# Altium schematic symbol library IC.SchLib: 77 symbols (part 1 of 3)
Pins are listed as number, name and electrical type; pins without a type are passive.

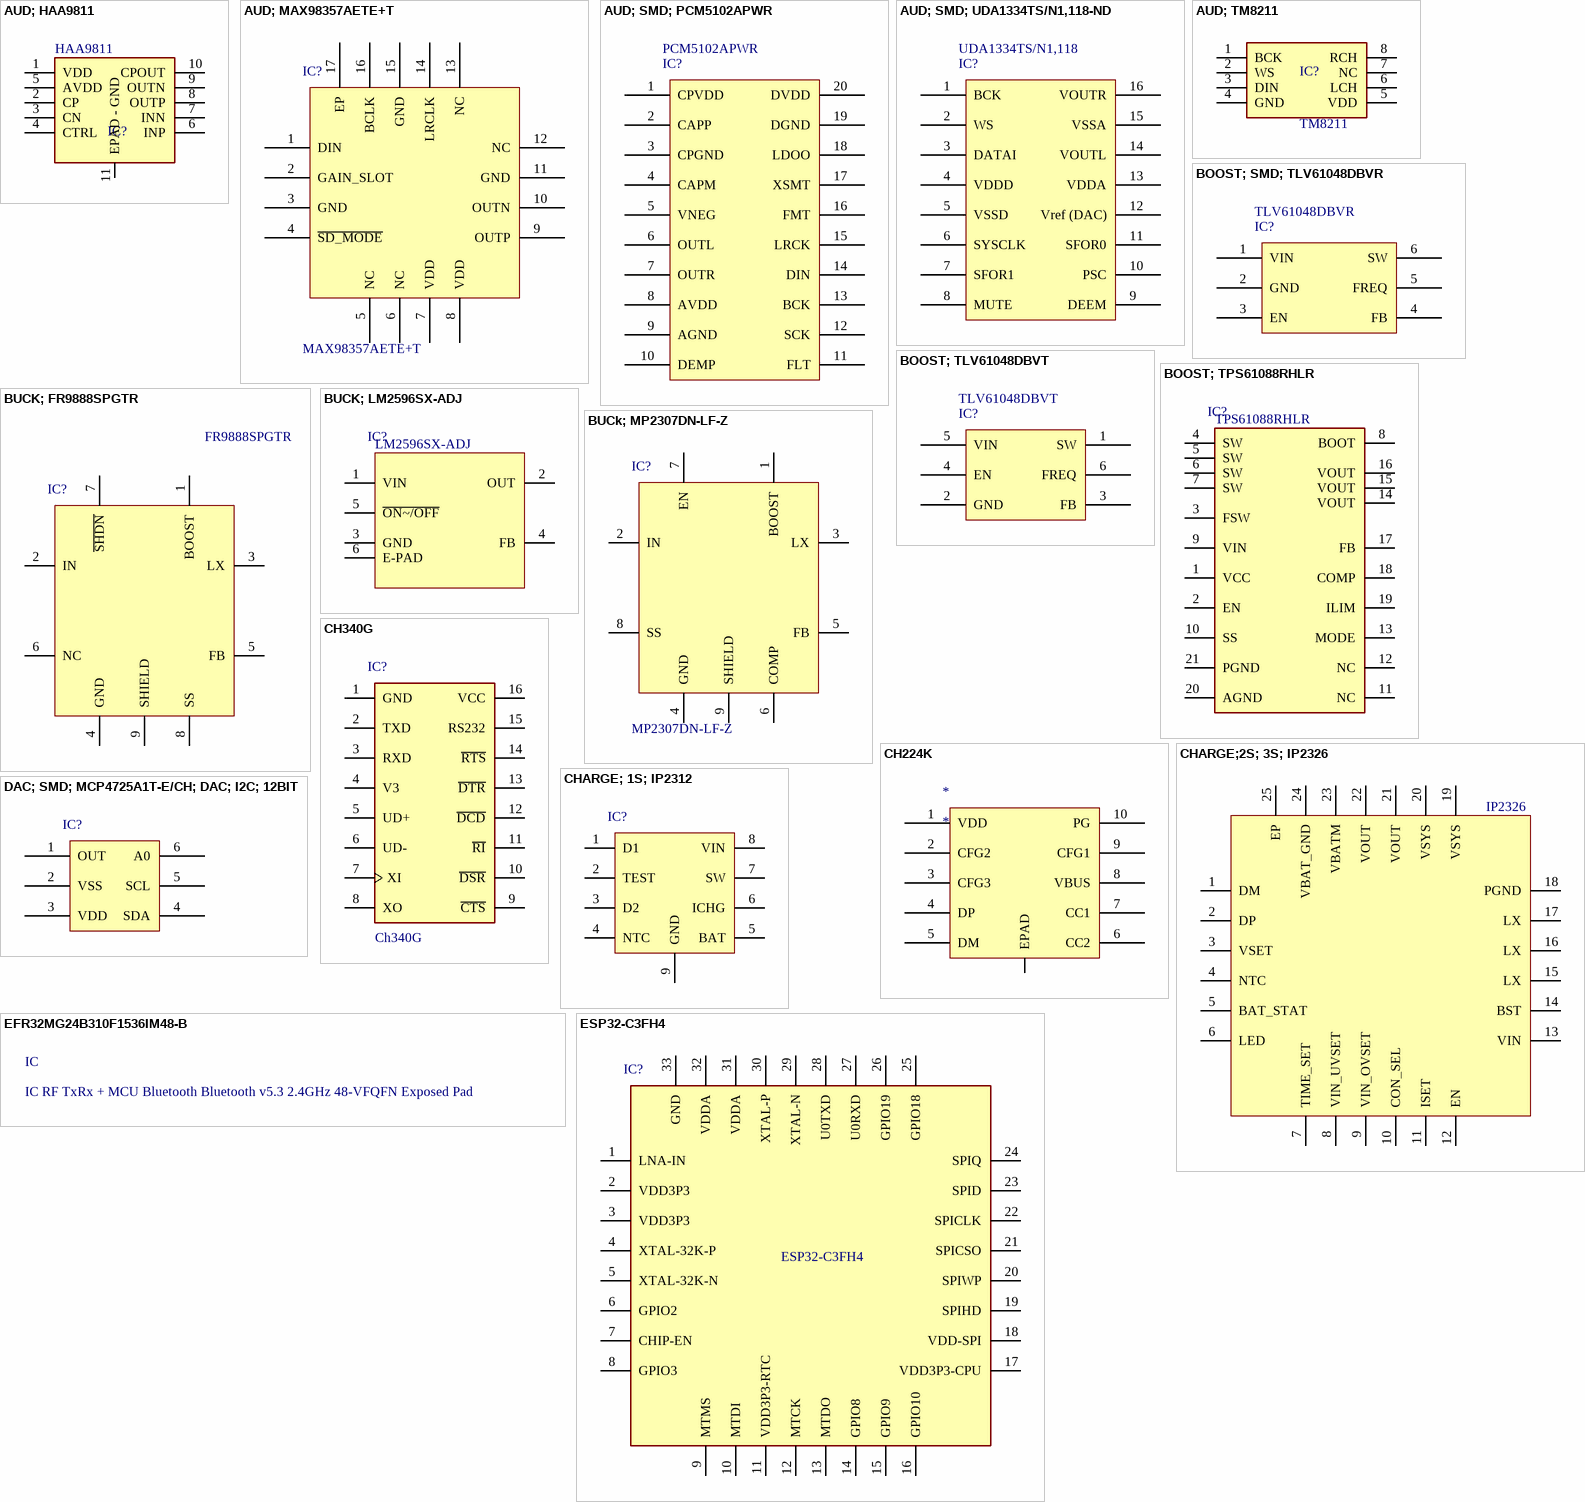
[diagram p0: symbols AUD; HAA9811 to ESP32-C3FH4]

## AUD; HAA9811
designator IC?, comment HAA9811
Amplifier; Manufacturer: ChipSourceTek Technology; Packaging: Cut Tape (CT); Package: ESOP-10; Manufacture Part Number: HAA9811
footprint ESOP-10
pins: 1 VDD, 2 CP, 3 CN, 4 CTRL, 5 AVDD, 6 INP, 7 INN, 8 OUTP, 9 OUTN, 10 CPOUT, 11 EPAD - GND

## AUD; MAX98357AETE+T
designator IC?, comment Manufacturer Part Number: MAX98357AETE+T  (hidden comment: Amplifier IC 1-Channel (Mono) Class D 16-TQFN (3x3))
MAX98357A Series 5.5 V 3.2 W PCM Input Class D Audio Power Amplifier - TQFN-16; Manufacturer: Analog Devices; Max Output Power: 3.2W; Max Supply Voltage: 5.5V; Min Supply Voltage: 2.5V; Power Supply Rejection Ratio (PSRR): 77dB; Voltage Gain: 15dB; Max Output current: 1.6A; Max Power Dissipation: 1.666W; Number of Channels: 1NUMBER; Designer: TVBac; Supplier: Digikey; Supplier Part Number: MAX98357AETE+TCT-ND; RoHS: No; Category: Amplifiers - Audio; Stock: 4684; Pricing: 1=4.17, 10=2.752, 25=2.3832, 100=1.9691, 250=1.76784, 500=1.6451, 1000=1.5431, 2500=1.43432, 5000=1.36811 (USD); Mounting Technology: 8Mount; Pins: 16NUMBER; Contact Plating: 154ConductorMaterial; Min Operating Temperature: -40°C; Max Operating Temperature: 85°C; Packaging: 10Packaging; Output Power: 3.2W; Height: 800um; Radiation Hardening: 5898YesNo; ComponentLink1Description: Link Datasheet; ComponentLink1URL: https://www.analog.com/media/en/technical-documentation/data-sheets/max98357a-max98357b.pdf; ComponentLink2Description: Link Digikey; ComponentLink2URL: https://www.digikey.kr/en/products/detail/analog-devices-inc-maxim-integrated/MAX98357AETE-T/4936122; ComponentLink3Description: Link Digikey; ComponentLink3URL: https://www.digikey.com/en/products/detail/analog-devices-inc-maxim-integrated/MAX98357AETE-T/4936122
footprint TQFN-16
pins: 1 DIN, 2 GAIN_SLOT, 3 GND, 4 ~{SD_MODE}, 5 NC, 6 NC, 7 VDD, 8 VDD, 9 OUTP, 10 OUTN, 11 GND, 12 NC, 13 NC, 14 LRCLK, 15 GND, 16 BCLK, 17 EP

## AUD; SMD; PCM5102APWR
designator IC?, comment Manufacturer Part Number: PCM5102APWR  (hidden comment: DAC, Audio 16 b, 24 b, 32 b 384k PCM 20-TSSOP)
DAC, Audio 16 b, 24 b, 32 bit 384k PCM 20-TSSOP; Manufacturer: Texas Instruments; Designer: TVBac; Supplier: Digikey; Supplier Part Number: 296-36707-1-ND; RoHS: Yes; Category: Digital to Analog Converters (DACs); Stock: 3076; Pricing: 1=4.95, 10=3.635, 25=3.3064, 100=2.9445, 250=2.77196, 500=2.66792, 1000=2.58225, 2000=2.51174, 4000=2.45369 (USD); ComponentLink1URL: https://datasheet.ciiva.com/24021/slas859a-261040-24021907.pdf?src-supplier=Mouser; ComponentLink1Description: https://datasheet.ciiva.com/24021/slas859a-261040-24021907.pdf?src-supplier=Mouser; ComponentLink2URL: https://datasheet.ciiva.com/29648/pcm5102a-29648362.pdf?src-supplier=Digikey; ComponentLink2Description: https://datasheet.ciiva.com/29648/pcm5102a-29648362.pdf?src-supplier=Digikey; ComponentLink3URL: https://datasheet.ciiva.com/6673/pcm5102a-6673611.pdf?src-supplier=Digikey; ComponentLink3Description: https://datasheet.ciiva.com/6673/pcm5102a-6673611.pdf?src-supplier=Digikey; ComponentLink4Description: Link Digikey; ComponentLink4URL: https://www.digikey.kr/en/products/detail/texas-instruments/PCM5102APWR/3727211
footprint TSSOP-20
pins: 1 CPVDD, 2 CAPP, 3 CPGND, 4 CAPM, 5 VNEG, 6 OUTL, 7 OUTR, 8 AVDD, 9 AGND, 10 DEMP, 11 FLT, 12 SCK, 13 BCK, 14 DIN, 15 LRCK, 16 FMT, 17 XSMT, 18 LDOO, 19 DGND, 20 DVDD

## AUD; SMD; UDA1334TS/N1,118-ND
designator IC?, comment Manufacturer Part Number: UDA1334TS/N1,118  (hidden comment: DAC, Audio 24 b 100k I2S 16-SSOP)
Low power audio DAC; Manufacturer: NXP USA Inc.; Designer: TVBac; Supplier: Digikey; Supplier Part Number: UDA1334TS/N1,118-ND; RoHS: Yes; Category: ADCs/DACs - Special Purpose; Stock: 0; ComponentLink1URL: https://mm.digikey.com/Volume0/opasdata/d220001/medias/docus/844/UDA1334TS_2.pdf; ComponentLink1Description: Link Datasheet; ComponentLink4Description: Link Digikey; ComponentLink4URL: https://www.digikey.com/en/products/detail/nxp-usa-inc/UDA1334TS-N1-118/1158493#product-details-alt-pack-types
footprint SSOP-16
pins: 1 BCK, 2 WS, 3 DATAI, 4 VDDD, 5 VSSD, 6 SYSCLK, 7 SFOR1, 8 MUTE, 9 DEEM, 10 PSC, 11 SFOR0, 12 Vref (DAC), 13 VDDA, 14 VOUTL, 15 VSSA, 16 VOUTR

## AUD; TM8211
designator IC?, comment TM8211
3V~8V 16-Bit SOIC-8 Digital to Analog Converters (DAC) ROHS; Manufacturer: TM(Shenzhen Titan Micro Elec); Packaging: Cut Tape (CT); Package: SOIC-8; Link: https://www.lcsc.com/product-detail/Digital-to-Analog-Converters-DAC_TM-Shenzhen-Titan-Micro-Elec-TM8211_C92003.html?s_z=n_tm8211; Manufacture Part Number: TM8211
footprint SOIC-8
pins: 1 BCK, 2 WS, 3 DIN, 4 GND, 5 VDD, 6 LCH, 7 NC, 8 RCH

## BOOST; SMD; TLV61048DBVR
designator IC?, comment Manufacturer Part Number: TLV61048DBVR  (hidden comment: Boost Switching Regulator IC Positive Adjustable 3.3V 1 Output 3.7A (Switch) SOT-23-6)
14-V output voltage non-synchronous boost converter in SOT-23 package 6-SOT-23 -40 to 125; Manufacturer: Texas Instruments; Designer: TVBac; Supplier: Mouser; Supplier Part Number: 595-TLV61048DBVR; RoHS: Yes; Category: Voltage Regulators - Switching; Stock: 3898; Pricing: 1=0.68, 10=0.571, 50=0.571, 100=0.443, 1000=0.314, 10000=0.262 (USD); ComponentLink1URL: http://www.ti.com/general/docs/suppproductinfo.tsp?distId=10&amp;gotoUrl=http%3A%2F%2Fwww.ti.com%2Flit%2Fgpn%2Ftlv61048&src-supplier=Digikey; ComponentLink1Description: http://www.ti.com/general/docs/suppproductinfo.tsp?distId=10&amp;gotoUrl=http%3A%2F%2Fwww.ti.com%2Flit%2Fgpn%2Ftlv61048&src-supplier=Digikey; ComponentLink2Description: Link Digikey; ComponentLink2URL: https://www.digikey.com/en/products/detail/texas-instruments/TLV61048DBVR/10715594
footprint SOT-23-6
pins: 1 VIN, 2 GND, 3 EN, 4 FB, 5 FREQ, 6 SW

## BOOST; TLV61048DBVT
designator IC?, comment Manufacturer Part Number: TLV61048DBVT  (hidden comment: Boost Switching Regulator IC Positive Adjustable 3.3V 1 Output 3.7A (Switch) SOT-23-6)
14-V output voltage non-synchronous boost converter in SOT-23 package 6-SOT-23 -40 to 125; Manufacturer: Texas Instruments; Designer: TVBac; Supplier: Mouser; Supplier Part Number: 595-TLV61048DBVT; RoHS: Yes; Category: Voltage Regulators - Switching; Stock: 1123; Pricing: 1=1.43, 10=1.22, 50=1.22, 100=0.932, 1000=0.649, 10000=0.554 (USD); ComponentLink1URL: http://www.ti.com/general/docs/suppproductinfo.tsp?distId=10&amp;gotoUrl=http%3A%2F%2Fwww.ti.com%2Flit%2Fgpn%2Ftlv61048&src-supplier=Digikey; ComponentLink1Description: http://www.ti.com/general/docs/suppproductinfo.tsp?distId=10&amp;gotoUrl=http%3A%2F%2Fwww.ti.com%2Flit%2Fgpn%2Ftlv61048&src-supplier=Digikey
footprint SOT-23-6-TI
pins: 1 SW, 2 GND, 3 FB, 4 EN, 5 VIN, 6 FREQ

## BOOST; TPS61088RHLR
designator IC?, comment Manufacturer Part Number: TPS61088RHLR  (hidden comment: Boost Switching Regulator IC Positive Adjustable 4.5V 1 Output 10A 20-VFQFN Exposed Pad)
Conv DC-DC 2.7V to 12V Synchronous Step Up Single-Out 4.5V to 12.6V 3A 20-Pin VQFN EP T/R; Manufacturer: Texas Instruments; Number of Outputs: 1; Switching Frequency: 2.2MHz; Synchronous Rectifier: Yes; Efficiency: 91%; Quiescent Current: 110uA; Supplier: Mouser; Supplier Part Number: 595-TPS61088RHLR; RoHS: Yes; Category: Voltage Regulators - Switching; Stock: 161; Pricing: 1=3.72, 10=2.62, 25=2.42, 50=2.42, 100=2.14, 250=2.02, 500=1.79, 1000=1.49, 3000=1.37, 6000=1.31, 10000=1.31 (USD); Mounting Technology: Surface Mount; Case/Package: VQFN; Pins: 20; Min Operating Temperature: -40°C; Max Operating Temperature: 85°C; Packaging: Cut Tape; Min Input Voltage: 2.7V; Max Supply Voltage: 12V; Min Output Voltage: 4.5V; Max Output Voltage: 12.6V; Output Current: 10A; Output Voltage: 12.6V; Max Output current: 10A; Topology: Boost; Operating Supply Voltage: 12V; Output Type: Adjustable; Output Configuration: Positive; Series: -; Lead Free: Lead Free; RoHS Compliant: Yes; ComponentLink1URL: http://www.ti.com/lit/ds/symlink/tps61088.pdf?src-supplier=Digikey; ComponentLink1Description: http://www.ti.com/lit/ds/symlink/tps61088.pdf?src-supplier=Digikey; ComponentLink2URL: http://www.ti.com/general/docs/lit/getliterature.tsp?genericPartNumber=TPS61088&&fileType=pdf&src-supplier=Avnet; ComponentLink2Description: http://www.ti.com/general/docs/lit/getliterature.tsp?genericPartNumber=TPS61088&&fileType=pdf&src-supplier=Avnet
footprint VFQFN-20-3.5x4.5-TI
pins: 1 VCC, 2 EN, 3 FSW, 4 SW, 5 SW, 6 SW, 7 SW, 8 BOOT, 9 VIN, 10 SS, 11 NC, 12 NC, 13 MODE, 14 VOUT, 15 VOUT, 16 VOUT, 17 FB, 18 COMP, 19 ILIM, 20 AGND, 21 PGND

## BUCK; FR9888SPGTR
designator IC?, comment Supplier Part Number: FR9888SPGTR  (hidden comment: 23V Input, 3.5A Output, 340KHz Synchronous Step-Down DC/DC Converter)
Step-down type Adjustable 925mV~20V 3.5A 4.5V~23V SOIC-8-EP DC-DC Converters ROHS; Manufacturer: Fitipower Integrated Tech; Supplier: LCSC
footprint SOIC-8-FIT
pins: 1 BOOST, 2 IN, 3 LX, 4 GND, 5 FB, 6 NC, 7 ~{SHDN}, 8 SS, 9 SHIELD

## BUCK; LM2596SX-ADJ
designator IC?, comment Manufacturer Part Number: LM2596SX-ADJ  (hidden comment: Buck Switching Regulator IC Positive Adjustable 1.2V 1 Output 3A TO-263-6, D2PAK (5 Leads + Tab), TO-263BA)
IC REG BUCK ADJ 3A TO263-5; Manufacturer: TI National Semiconductor; Max Supply Voltage: 40V; Output Voltage: 37V; Min Input Voltage: 4.5V; Number of Outputs: 1; Switching Frequency: 173kHz; Efficiency: 73%; Synchronous Rectifier: No; Quiescent Current: 5mA; Supplier: Mouser; Supplier Part Number: 926-LM2596SX-ADJ; RoHS: No; Category: Voltage Regulators - Switching; Stock: 626; Pricing: 1=9.47, 10=7.1, 50=6.77, 100=5.88, 1000=4.45, 10000=4.45 (USD); Mounting Technology: Surface Mount; Case/Package: TO-263-5; Pins: 5; Min Operating Temperature: -40°C; Max Operating Temperature: 125°C; Output Current: 3A; Packaging: Tape and Reel; Package Quantity: 500; Output Type: Adjustable; Series: SIMPLE SWITCHER®; Output Configuration: Positive; Min Output Voltage: 1.2V; Max Output Voltage: 37V; Radiation Hardening: No; Lead Free: Contains Lead; RoHS Compliant: No; ComponentLink1URL: https://datasheet.ciiva.com/15113/getdatasheetpartid-143382-15113118.pdf?src-supplier=Verical; ComponentLink1Description: https://datasheet.ciiva.com/15113/getdatasheetpartid-143382-15113118.pdf?src-supplier=Verical; ComponentLink2URL: https://datasheet.ciiva.com/6605/lm2596-6605973.pdf?src-supplier=Digikey; ComponentLink2Description: https://datasheet.ciiva.com/6605/lm2596-6605973.pdf?src-supplier=Digikey
footprint TO-263-6-LM2596-TI
pins: 1 VIN, 2 OUT, 3 GND, 4 FB, 5 ~{ON~/OFF}, 6 E-PAD

## BUCk; MP2307DN-LF-Z
designator IC?, comment Manufacturer Part Number: MP2307DN-LF-Z  (hidden comment: Buck Switching Regulator IC Positive Adjustable 0.925V 1 Output 3A 8-SOIC (0.154", 3.90mm Width) Exposed Pad)
Buck Switching Regulator IC Positive Adjustable 0.925V 1 Output 3A 8-SOIC (0.154, 3.90mm Width) Exposed Pad; Manufacturer: Monolithic Power Systems; Supplier: Digikey; Supplier Part Number: 1589-1576-1-ND; RoHS: Yes; Category: Voltage Regulators - Switching; Stock: 576; Pricing: 1=3.62, 10=2.73, 25=2.5064, 100=2.2605, 250=2.1434, 500=2.07278, 1000=2.01467 (USD); ComponentLink1URL: https://datasheet.ciiva.com/12215/mp2307-r1-9-371737-12215450.pdf?src-supplier=Mouser; ComponentLink1Description: https://datasheet.ciiva.com/12215/mp2307-r1-9-371737-12215450.pdf?src-supplier=Mouser
footprint SOIC-8-EP-MPS
pins: 1 BOOST, 2 IN, 3 LX, 4 GND, 5 FB, 6 COMP, 7 EN, 8 SS, 9 SHIELD

## CH224K
designator *
footprint ESSOP-10-CHK224
pins: 1 VDD, 2 CFG2, 3 CFG3, 4 DP, 5 DM, 6 CC2, 7 CC1, 8 VBUS, 9 CFG1, 10 PG, 11 EPAD

## CH340G
designator IC?, comment Supplier Part Number: Ch340G  (hidden comment: CH340)
USB Interface Integrated Circuit; MF: WCH; Designer: TVBac; SnapEDA_Link: https://www.snapeda.com/parts/Ch340G/WCH/view-part/?ref=snap; Package: None; Value: *; Check_prices: https://www.snapeda.com/parts/Ch340G/WCH/view-part/?ref=eda
footprint SOP-16
pins: 1 GND, 2 TXD, 3 RXD, 4 V3, 5 UD+, 6 UD-, 7 XI, 8 XO, 9 ~{CTS}, 10 ~{DSR}, 11 ~{RI}, 12 ~{DCD}, 13 ~{DTR}, 14 ~{RTS}, 15 RS232, 16 VCC

## CHARGE;2S; 3S; IP2326
designator IC?, comment IP2326
Manufacturer: INJOINIC(英集芯); Add into BOM: yes; Symbol: IP2326; Supplier Part: C2832094; Manufacturer Part: IP2326; Supplier Footprint: VQFN-24-EP(4x4); JLCPCB Part Class: Extended Part; Datasheet: https://atta.szlcsc.com/upload/public/pdf/source/20210701/C2832094_E17C44C11E64EBC07E8B83E7E48DDEF6.pdf; Supplier: LCSC; Convert to PCB: yes; LCSC Part Name: IP2326; Device: IP2326
footprint VQFN-24-INJOINIC-IP2326
pins: 1 DM, 2 DP, 3 VSET, 4 NTC, 5 BAT_STAT, 6 LED, 7 TIME_SET, 8 VIN_UVSET, 9 VIN_OVSET, 10 CON_SEL, 11 ISET, 12 EN, 13 VIN, 14 BST, 15 LX, 16 LX, 17 LX, 18 PGND, 19 VSYS, 20 VSYS, 21 VOUT, 22 VOUT, 23 VBATM, 24 VBAT_GND, 25 EP

## CHARGE; 1S; IP2312
designator IC?, comment Single-cell lithium battery synchronous switch buck charging IC  (value not drawn)
Designer: TVBac; ComponentLink1Description: Link Datasheet; ComponentLink1URL: https://make.net.za/wp-content/datasheets/INJOINIC%20IP2312%20Translated.pdf?srsltid=AfmBOop1tiJHJFQKQ-VV0TnRaqLrjqOdWfal6c-4GGnJfJY4QR9uiaXD; Supplier Part Number: IP2312
footprint ESOP-8
pins: 1 D1, 2 TEST, 3 D2, 4 NTC, 5 BAT, 6 ICHG, 7 SW, 8 VIN, 9 GND

## DAC; SMD; MCP4725A1T-E/CH; DAC; I2C; 12BIT
designator IC?, comment 12 Bit Digital to Analog Converter 1 SOT-23-6  (value not drawn)
Single, 12-bit NV DAC w/ I2C interface6SOT-23 T/R | Microchip Technology Inc. MCP4725A1T-E/CH; Interface: I2C,Serial,2-Wire; Max Supply Voltage: 5.5V; Min Supply Voltage: 2.7V; Number of Channels: 1; Settling Time: 6us; Number of Bits: 12; Resolution: 12b; Integral Nonlinearity (INL): 14.5LSB; Input Offset Voltage (Vos): 1.1mV; Output Type: Voltage; Output Polarity: Bipolar; Differential Output: No; Designer: TVBac; Supplier: Digikey; Supplier Part Number: MCP4725A1T-E/CHCT-ND; Manufacturer: Microchip; Manufacturer Part Number: MCP4725A1T-E/CH; RoHS: Yes; Category: Digital to Analog Converters (DACs); Stock: 26345; Pricing: 1=1.27, 25=1.06, 100=0.97 (USD); Mounting Technology: Surface Mount; Case/Package: SOT-23; Pins: 6; Min Operating Temperature: -40°C; Max Operating Temperature: 125°C; Packaging: Tape and Reel; Package Quantity: 3000; Number of DAC Channels: 1; Number of Converters: 1; Series: -; Number of D/A Converters: 1; Length: 3.1mm; Width: 1.8mm; Height: 1.3mm; Radiation Hardening: No; Lead Free: Lead Free; RoHS Compliant: Yes; ComponentLink1URL: https://datasheet.ciiva.com/1359/22039d-1359792.pdf?src-supplier=Digikey; ComponentLink1Description: https://datasheet.ciiva.com/1359/22039d-1359792.pdf?src-supplier=Digikey; ComponentLink2URL: https://datasheet.ciiva.com/12285/22039d-9676-12285968.pdf?src-supplier=Mouser; ComponentLink2Description: https://datasheet.ciiva.com/12285/22039d-9676-12285968.pdf?src-supplier=Mouser; ComponentLink3URL: https://datasheet.ciiva.com/26922/getdatasheetpartid-762738-26922576.pdf?src-supplier=Verical; ComponentLink3Description: https://datasheet.ciiva.com/26922/getdatasheetpartid-762738-26922576.pdf?src-supplier=Verical; ComponentLink4URL: https://datasheet.ciiva.com/1359/22039d-1359790.pdf?src-supplier=Digikey; ComponentLink4Description: https://datasheet.ciiva.com/1359/22039d-1359790.pdf?src-supplier=Digikey; ComponentLink5URL: https://datasheet.ciiva.com/1359/22039d-1359791.pdf?src-supplier=Digikey; ComponentLink5Description: https://datasheet.ciiva.com/1359/22039d-1359791.pdf?src-supplier=Digikey; ComponentLink6URL: https://datasheet.ciiva.com/3041/22039c-3041487.pdf?src-supplier=Avnet; ComponentLink6Description: https://datasheet.ciiva.com/3041/22039c-3041487.pdf?src-supplier=Avnet; ComponentLink7URL: https://datasheet.ciiva.com/16351/filehandler-aspxddocname-en532676-16351000.pdf?src-supplier=Future+Electronics; ComponentLink7Description: https://datasheet.ciiva.com/16351/filehandler-aspxddocname-en532676-16351000.pdf?src-supplier=Future+Electronics; ComponentLink8Description: Link Digikey; ComponentLink8URL: https://www.digikey.kr/en/products/detail/microchip-technology/MCP4725A1T-E-CH/1827895
footprint SOT-23-6
pins: 1 OUT, 2 VSS, 3 VDD, 4 SDA, 5 SCL, 6 A0

## EFR32MG24B310F1536IM48-B
designator IC, comment IC RF TxRx + MCU Bluetooth Bluetooth v5.3 2.4GHz 48-VFQFN Exposed Pad
MG24, 2.4 GHz, 1536kB Flash, 256kB RAM, +10 dBm, Secure Vault High, 20-bit ADC, MVP, +125C, QFN48; Manufacturer: Silicon Labs; Manufacturer Part Number: EFR32MG24B310F1536IM48-B; Supplier: Mouser; Supplier Part Number: 634-32MGB310F153648B; RoHS: No; Category: RF Receivers, Transceivers; Stock: 1894; Pricing: 1=12.06, 10=9.35, 50=7.71, 100=7.11, 1000=6.27, 10000=6.27 (USD); ComponentLink1Description: Link Digikey; ComponentLink1URL: https://www.digikey.com/en/products/detail/silicon-labs/EFR32MG24B310F1536IM48-B/16183991

## ESP32-C3FH4
designator IC?, comment Manufacturer Part Number: ESP32-C3FH4  (hidden comment: IC RF TxRx + MCU Bluetooth, WiFi 802.11b/g/n, Bluetooth v5.0 32-VFQFN Exposed Pad)
QFN-32-EP(5x5) Microcontroller Units (MCUs/MPUs/SOCs) ROHS; Manufacturer: Espressif Systems; Supplier: Digikey; Supplier Part Number: 1904-ESP32-C3FH4CT-ND; RoHS: No; Category: LDO; Stock: 7853; Pricing: 1=2.43, 10=2.095, 25=1.9784, 100=1.8181, 250=1.722, 500=1.65408, 1000=1.59007 (USD)
footprint QFN-32-LxW-5.0x5.0-ESP
pins: 1 LNA-IN, 2 VDD3P3, 3 VDD3P3, 4 XTAL-32K-P, 5 XTAL-32K-N, 6 GPIO2, 7 CHIP-EN, 8 GPIO3, 9 MTMS, 10 MTDI, 11 VDD3P3-RTC, 12 MTCK, 13 MTDO, 14 GPIO8, 15 GPIO9, 16 GPIO10, 17 VDD3P3-CPU, 18 VDD-SPI, 19 SPIHD, 20 SPIWP, 21 SPICSO, 22 SPICLK, 23 SPID, 24 SPIQ, 25 GPIO18, 26 GPIO19, 27 U0RXD, 28 U0TXD, 29 XTAL-N, 30 XTAL-P, 31 VDDA, 32 VDDA, 33 GND

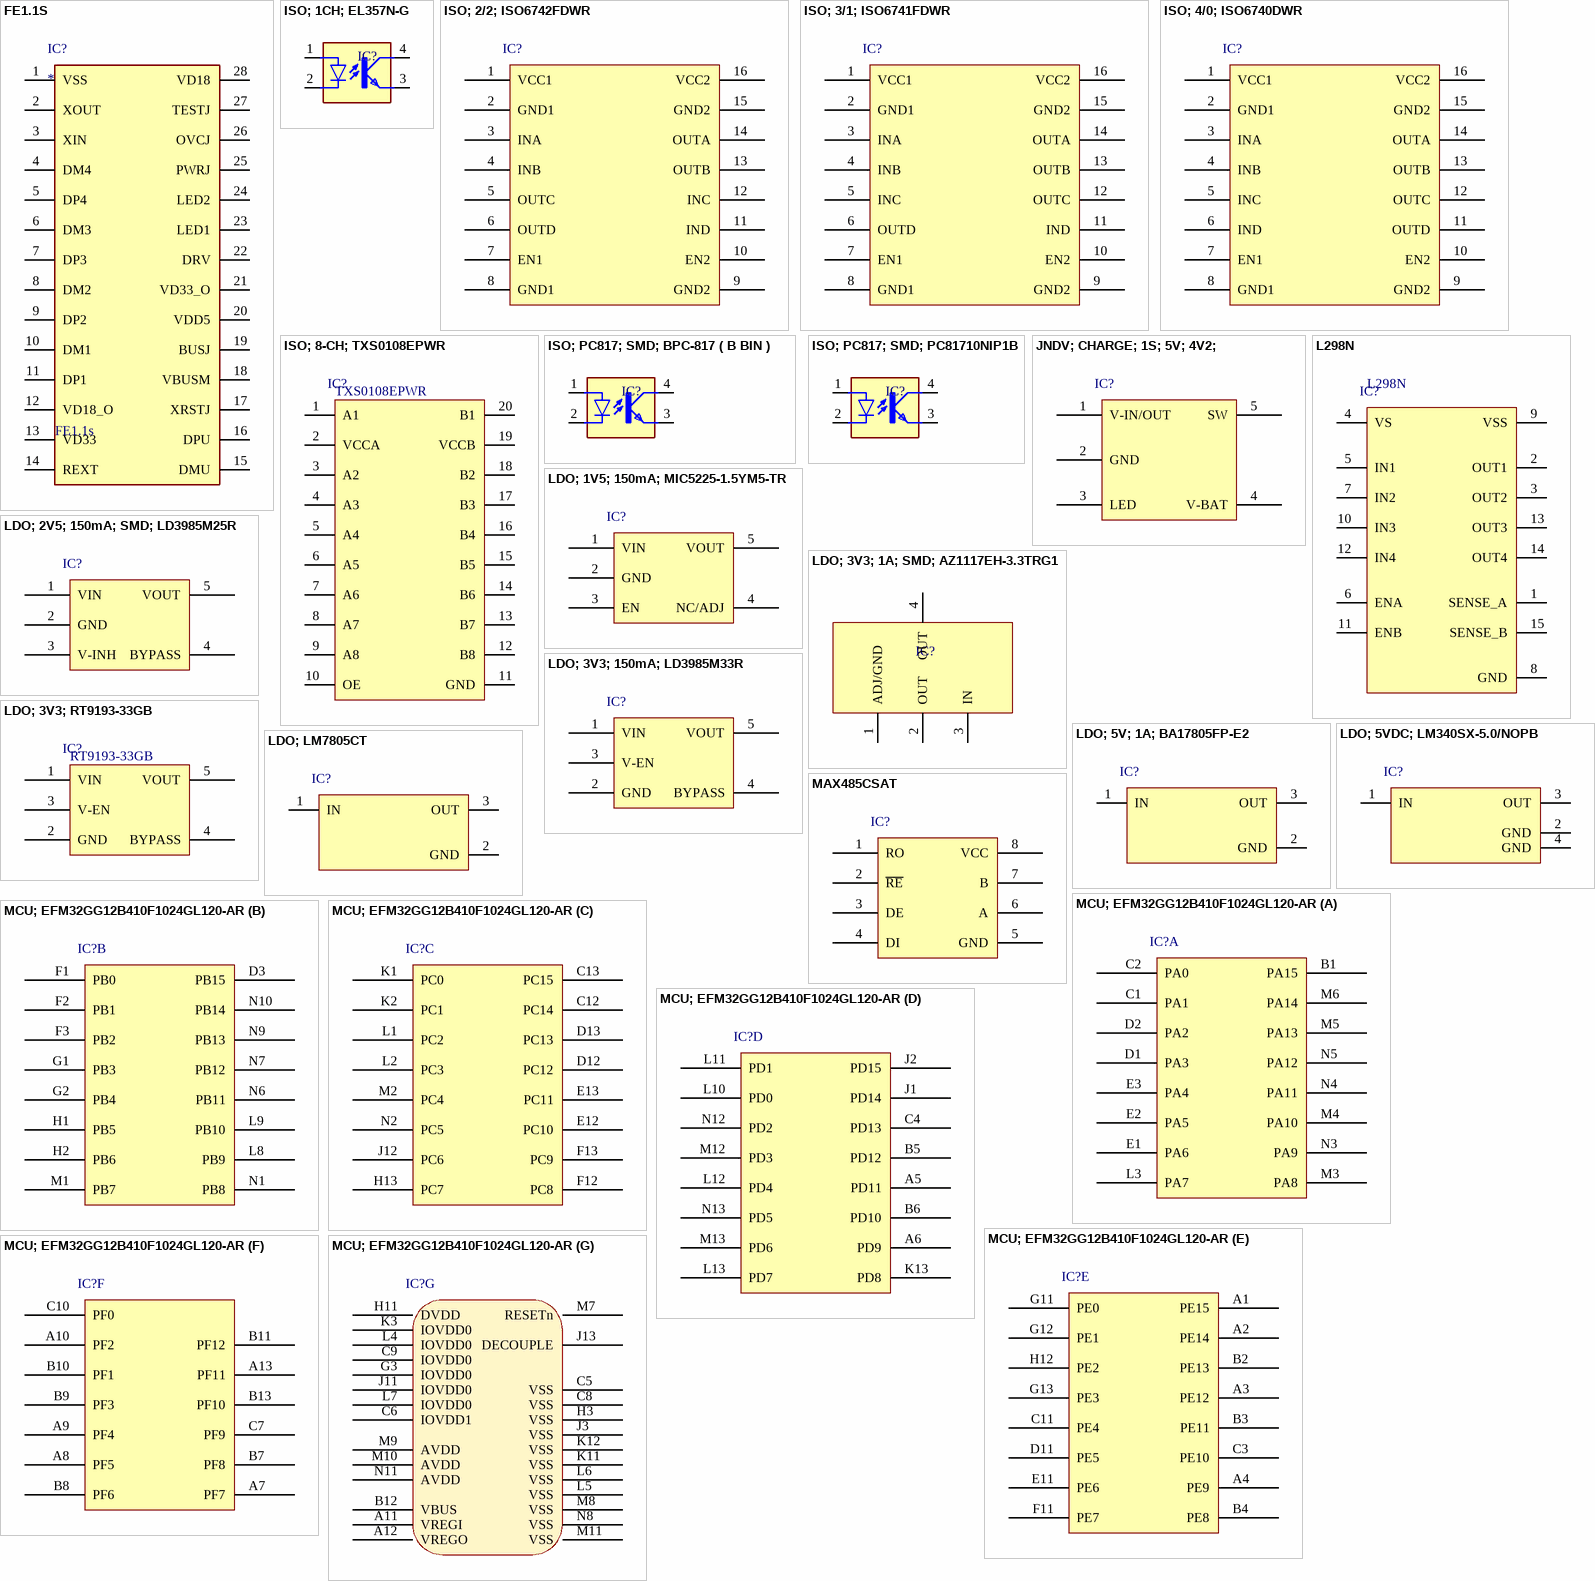
[diagram p1: symbols FE1.1S to MCU; EFM32GG12B410F1024GL120-AR]

## FE1.1S
designator IC?
USB 2.0 HIGH SPEED 4-PORT HUB CONTROLLER; MF: terminus; MP: FE1.1S; Designer: TVBac; SnapEDA_Link: https://www.snapeda.com/parts/FE1.1S/Terminus/view-part/?ref=snap; Package: None; Value: *; Check_prices: https://www.snapeda.com/parts/FE1.1S/Terminus/view-part/?ref=eda
footprint SSOP-28
pins: 1 VSS, 2 XOUT, 3 XIN, 4 DM4, 5 DP4, 6 DM3, 7 DP3, 8 DM2, 9 DP2, 10 DM1, 11 DP1, 12 VD18_O, 13 VD33, 14 REXT, 15 DMU, 16 DPU, 17 XRSTJ, 18 VBUSM, 19 BUSJ, 20 VDD5, 21 VD33_O, 22 DRV, 23 LED1, 24 LED2, 25 PWRJ, 26 OVCJ, 27 TESTJ, 28 VD18
text: FE1.1s

## ISO; 1CH; EL357N-G
designator IC?, comment Optoisolator Transistor Output 3750Vrms 1 Channel 4-SOP (2.54mm)  (value not drawn)
Transistor Output Optocoupler, 1-Element, 3750V Isolation; Manufacturer: Everlight; Manufacturer Part Number: EL357N-G; Designer: TVBac; Supplier: Digikey; Supplier Part Number: 1080-1037-ND; RoHS: Yes; Category: Optocouplers; Stock: 137; Pricing: 1=0.7, 10=0.416, 100=0.2729, 500=0.2168, 1000=0.19958, 2000=0.18548, 5000=0.17066, 10000=0.16177, 25000=0.15242 (USD); ComponentLink1URL: https://datasheet.ciiva.com/2086/201407061738295695-2086633.pdf?src-supplier=Digikey; ComponentLink1Description: https://datasheet.ciiva.com/2086/201407061738295695-2086633.pdf?src-supplier=Digikey
footprint SOP-4
pins: 1 A, 2 C, 3 EMIT, 4 COL

## ISO; 2/2; ISO6742FDWR
designator IC?, comment CAN, RS232, RS485, SPI Digital Isolator 5000Vrms 4 Channel 50Mbps 100kV/µs CMTI 16-SOIC (0.295", 7.50mm Width)  (value not drawn)
General-purpose, quad-channel, 2/2 digital isolator 16-SOIC -40 to 125; Manufacturer: Texas Instruments; Manufacturer Part Number: ISO6742FDWR; Designer: TVBac; Supplier: Mouser; Supplier Part Number: 595-ISO6742FDWR; RoHS: No; Category: Interface ICs; Stock: 32819; Pricing: 1=2.23, 10=1.55, 50=1.55, 100=1.36, 1000=1.17, 10000=1.15 (USD); ComponentLink1Description: Link Digikey; ComponentLink1URL: https://www.digikey.com/en/products/detail/texas-instruments/ISO6742FDWR/14641467
footprint SOIC-16-W-7.5-TI
pins: 1 VCC1, 2 GND1, 3 INA, 4 INB, 5 OUTC, 6 OUTD, 7 EN1, 8 GND1, 9 GND2, 10 EN2, 11 IND, 12 INC, 13 OUTB, 14 OUTA, 15 GND2, 16 VCC2

## ISO; 3/1; ISO6741FDWR
designator IC?, comment CAN, RS232, RS485, SPI Digital Isolator 5000Vrms 4 Channel 50Mbps 100kV/µs CMTI 16-SOIC (0.295", 7.50mm Width)  (value not drawn)
General-purpose, quad-channel, 3/1 digital isolator 16-SOIC -40 to 125; Manufacturer: Texas Instruments; Manufacturer Part Number: ISO6741FDWR; Designer: TVBac; Supplier: Digikey; Supplier Part Number: 296-ISO6741FDWRCT-ND; RoHS: Yes; Category: Integrated Circuits (ICs); Stock: 2112; Pricing: 1=2.84, 10=2.044, 25=1.8448, 100=1.6259, 250=1.52144, 500=1.45844, 1000=1.40657 (USD); RoHS Compliant: Yes; ComponentLink1Description: Link Digikey; ComponentLink1URL: https://www.digikey.com/en/products/detail/texas-instruments/ISO6741FDWR/13627089
footprint SOIC-16-W-7.5-TI
pins: 1 VCC1, 2 GND1, 3 INA, 4 INB, 5 INC, 6 OUTD, 7 EN1, 8 GND1, 9 GND2, 10 EN2, 11 IND, 12 OUTC, 13 OUTB, 14 OUTA, 15 GND2, 16 VCC2

## ISO; 4/0; ISO6740DWR
designator IC?, comment CAN, RS232, RS485, SPI Digital Isolator 5000Vrms 4 Channel 50Mbps 100kV/µs CMTI 16-SOIC (0.295", 7.50mm Width)  (value not drawn)
General-purpose, quad-channel, 4/0 digital isolator 16-SOIC -40 to 125; Manufacturer: Texas Instruments; Manufacturer Part Number: ISO6740DWR; Designer: TVBac; Supplier: Mouser; Supplier Part Number: 595-ISO6740DWR; RoHS: No; Category: Integrated Circuits (ICs); Stock: 26627; Pricing: 1=2.42, 10=1.65, 50=1.65, 100=1.45, 1000=1.23, 10000=1.15 (USD); ComponentLink1Description: Link Digikey; ComponentLink1URL: https://www.digikey.com/en/products/detail/texas-instruments/ISO6740DWR/14641443
footprint SOIC-16-W-7.5-TI
pins: 1 VCC1, 2 GND1, 3 INA, 4 INB, 5 INC, 6 IND, 7 EN1, 8 GND1, 9 GND2, 10 EN2, 11 OUTD, 12 OUTC, 13 OUTB, 14 OUTA, 15 GND2, 16 VCC2

## ISO; 8-CH; TXS0108EPWR
designator IC?, comment Manufacturer Part Number: TXS0108EPWR  (hidden comment: Voltage Level Translator Bidirectional 1 Circuit 8 Channel 60Mbps 20-TSSOP)
8-bit bidirectional voltage-level shifter for open-drain and push-pull application 20-TSSOP -40 to 85; Manufacturer: Texas Instruments; Number of Inputs: 8; Propagation Delay: 4.8ns; Min Supply Voltage: 1.2V; Max Supply Voltage: 5.5V; Rise Time: 6.3ns; Output Current: 620uA; High Level Output Current: -50mA; Low Level Output Current: 50mA; Turn-On Delay Time: 312ns; Quiescent Current: 3uA; Supply Current: 8uA; Number of Circuits: 1; Supplier: Mouser; Supplier Part Number: 595-TXS0108EPWR; RoHS: Yes; Category: Voltage Level Shifters; Stock: 97428; Pricing: 1=1.25, 10=0.905, 50=0.82, 100=0.725, 1000=0.612, 10000=0.569 (USD); Mounting Technology: Surface Mount; Case/Package: TSSOP; Pins: 20; Weight: 0.002716oz; Min Operating Temperature: -40°C; Max Operating Temperature: 85°C; Data Rate: 60Mbps; Number of Channels: 8; Package Quantity: 2000; Packaging: Tape and Reel; Logic Function: Translator; Number of Bits: 8; Termination: SMD/SMT; Series: -; Channel Type: Bidirectional; Radiation Hardening: No; Reach SVHC Compliant: No; Lead Free: Lead Free; RoHS Compliant: Yes; ComponentLink1URL: https://datasheet.ciiva.com/14287/txs0108e-14287280.pdf?src-supplier=Farnell; ComponentLink1Description: https://datasheet.ciiva.com/14287/txs0108e-14287280.pdf?src-supplier=Farnell; ComponentLink2URL: https://datasheet.ciiva.com/28653/1714661-28653429.pdf?src-supplier=Element14; ComponentLink2Description: https://datasheet.ciiva.com/28653/1714661-28653429.pdf?src-supplier=Element14; ComponentLink3URL: https://datasheet.ciiva.com/4834/sces642b-127094-4834401.pdf?src-supplier=Mouser; ComponentLink3Description: https://datasheet.ciiva.com/4834/sces642b-127094-4834401.pdf?src-supplier=Mouser; ComponentLink4URL: https://datasheet.ciiva.com/15096/getdatasheetpartid-322119-15096276.pdf?src-supplier=Verical; ComponentLink4Description: https://datasheet.ciiva.com/15096/getdatasheetpartid-322119-15096276.pdf?src-supplier=Verical; ComponentLink5URL: https://datasheet.ciiva.com/1508/1815244-1508732.pdf?src-supplier=Element14; ComponentLink5Description: https://datasheet.ciiva.com/1508/1815244-1508732.pdf?src-supplier=Element14; ComponentLink6URL: https://datasheet.ciiva.com/1899/txs0108e-1899605.pdf?src-supplier=Digikey; ComponentLink6Description: https://datasheet.ciiva.com/1899/txs0108e-1899605.pdf?src-supplier=Digikey; ComponentLink7URL: https://datasheet.ciiva.com/1899/txs0108e-1899604.pdf?src-supplier=Digikey; ComponentLink7Description: https://datasheet.ciiva.com/1899/txs0108e-1899604.pdf?src-supplier=Digikey; ComponentLink8URL: https://datasheet.ciiva.com/1899/txs0108e-1899606.pdf?src-supplier=Digikey; ComponentLink8Description: https://datasheet.ciiva.com/1899/txs0108e-1899606.pdf?src-supplier=Digikey; ComponentLink9URL: https://datasheet.ciiva.com/14287/txs0108e-14287532.pdf?src-supplier=Avnet; ComponentLink9Description: https://datasheet.ciiva.com/14287/txs0108e-14287532.pdf?src-supplier=Avnet
footprint TSSOP-20-TI
pins: 1 A1, 2 VCCA, 3 A2, 4 A3, 5 A4, 6 A5, 7 A6, 8 A7, 9 A8, 10 OE, 11 GND, 12 B8, 13 B7, 14 B6, 15 B5, 16 B4, 17 B3, 18 B2, 19 VCCB, 20 B1

## ISO; PC817; SMD; BPC-817 ( B BIN )
designator IC?, comment Optoisolator Transistor Output 5000Vrms 1 Channel 4-DIP  (value not drawn)
Sensor Photo 4DIP; Manufacturer: American Bright; Manufacturer Part Number: BPC-817 ( B BIN ); Designer: TVBac; Supplier: Digikey; Supplier Part Number: BPC-817(BBIN)-ND; RoHS: No; Category: Optocouplers; Stock: 5701; Pricing: 1=0.52, 10=0.322, 100=0.1849, 1000=0.14471, 2000=0.13266, 5000=0.12059, 10000=0.11255, 25000=0.10853 (USD); Mounting Technology: Through Hole; Case/Package: DIP; Packaging: Rail/Tube; Series: -; ComponentLink1Description: Link Datasheet; ComponentLink1URL: https://www.americanbrightled.com/pdffiles/ir-uv/ir/BPC-817.pdf; ComponentLink2Description: Link Digikey; ComponentLink2URL: https://www.digikey.kr/en/products/detail/american-bright-optoelectronics-corporation/BPC-817-B-BIN/9678142
footprint DIP-4
pins: 1 A, 2 C, 3 EMIT, 4 COL

## ISO; PC817; SMD; PC81710NIP1B
designator IC?, comment Optoisolator Transistor Output 5000Vrms 1 Channel 4-SMD  (value not drawn)
Optocoupler 1-CH Open Collector 5000Vrms 4-Pin DIP SMD T/R; Manufacturer: Socle Technology; Manufacturer Part Number: PC81710NIP1B; Designer: TVBac; Supplier: Digikey; Supplier Part Number: 1855-1014-1-ND; RoHS: No; Category: Optocouplers; Stock: 11038; Pricing: 1=1, 10=0.636, 100=0.4705, 500=0.43234, 1000=0.35605 (USD); ComponentLink1Description: Link Datasheet; ComponentLink1URL: http://www.socle-tech.com/doc/IC%20Channel%20Product/Optoelectronic%20Components/Photocoupler/PC8171_NIP1B_ED-16P023.pdf; ComponentLink2Description: Link Digikey; ComponentLink2URL: https://www.digikey.kr/en/products/detail/sharp-socle-technology/PC81710NIP1B/7798258
footprint SMD-4
pins: 1 A, 2 C, 3 EMIT, 4 COL

## JNDV; CHARGE; 1S; 5V; 4V2;
designator IC?  (value not drawn)
Designer: TVBac
footprint SOT-23-5-MT
pins: 1 V-IN/OUT, 2 GND, 3 LED, 4 V-BAT, 5 SW

## L298N
designator IC?, comment Manufacturer Part Number: L298N  (hidden comment: Half Bridge (4) Driver DC Motors, Relays, Solenoids, Stepper Motors Bipolar 15-Multiwatt)
Motor Driver, DC Brush, Full Bridge, 4 Outputs, 4.8V to 46V Supply, 2A Out, Multiwatt-15; Manufacturer: STMicroelectronics; Drain to Source Resistance: 930mR; Supplier: Mouser; Supplier Part Number: 511-L298; RoHS: Yes; Category: Motor Drivers; Stock: 2095; Pricing: 1=11.21, 10=9.25, 50=8.44, 100=7.88, 1000=7.11, 10000=7.11 (USD); Min Supply Voltage (DC): 4.8V; Lead Free: 5697LeadFree; ComponentLink1URL: https://datasheet.ciiva.com/14150/ofl298n-647108-dat-en-14150301.pdf?src-supplier=Distrelec; ComponentLink1Description: https://datasheet.ciiva.com/14150/ofl298n-647108-dat-en-14150301.pdf?src-supplier=Distrelec; ComponentLink2URL: https://datasheet.ciiva.com/25626/0900766b80060c26-25626619.pdf?src-supplier=Rs; ComponentLink2Description: https://datasheet.ciiva.com/25626/0900766b80060c26-25626619.pdf?src-supplier=Rs; ComponentLink3URL: https://datasheet.ciiva.com/19456/245403-19456698.pdf?src-supplier=Jameco; ComponentLink3Description: https://datasheet.ciiva.com/19456/245403-19456698.pdf?src-supplier=Jameco; ComponentLink4URL: https://datasheet.ciiva.com/15109/getdatasheetpartid-50682-15109332.pdf?src-supplier=Verical; ComponentLink4Description: https://datasheet.ciiva.com/15109/getdatasheetpartid-50682-15109332.pdf?src-supplier=Verical; ComponentLink5URL: https://datasheet.ciiva.com/4895/cd00000240-4895919.pdf?src-supplier=Mouser; ComponentLink5Description: https://datasheet.ciiva.com/4895/cd00000240-4895919.pdf?src-supplier=Mouser; ComponentLink6URL: https://datasheet.ciiva.com/1500/1693054-1500714.pdf?src-supplier=Element14; ComponentLink6Description: https://datasheet.ciiva.com/1500/1693054-1500714.pdf?src-supplier=Element14; ComponentLink7URL: https://datasheet.ciiva.com/1501/1693054-1501547.pdf?src-supplier=Element14; ComponentLink7Description: https://datasheet.ciiva.com/1501/1693054-1501547.pdf?src-supplier=Element14; ComponentLink8URL: https://datasheet.ciiva.com/1608/1693054-1608165.pdf?src-supplier=Newark; ComponentLink8Description: https://datasheet.ciiva.com/1608/1693054-1608165.pdf?src-supplier=Newark; ComponentLink9URL: https://datasheet.ciiva.com/1955/cd00000240-1955436.pdf?src-supplier=Digikey; ComponentLink9Description: https://datasheet.ciiva.com/1955/cd00000240-1955436.pdf?src-supplier=Digikey
footprint MULTIWATT-15-L298N-STM
pins: 1 SENSE_A, 2 OUT1, 3 OUT2, 4 VS, 5 IN1, 6 ENA, 7 IN2, 8 GND, 9 VSS, 10 IN3, 11 ENB, 12 IN4, 13 OUT3, 14 OUT4, 15 SENSE_B

## LDO; 1V5; 150mA; MIC5225-1.5YM5-TR
designator IC?, comment Linear Voltage Regulator IC Positive Fixed 1 Output 150mA SOT-23-5  (value not drawn)
LDO Regulator Pos 1.5V 0.15A 5-Pin 5SOT-23 T/R; Manufacturer: Microchip; Manufacturer Part Number: MIC5225-1.5YM5-TR; Dropout Voltage: 310mV; Number of Regulators: 1; Designer: TVBac; Supplier: Digikey; Supplier Part Number: 1611-MIC5225-1.5YM5-CT-ND; RoHS: Yes; Category: Voltage Regulators - Linear; Stock: 1064; Pricing: 1=0.39, 25=0.32, 100=0.31 (USD); Mounting Technology: Surface Mount; Case/Package: SOT-23-5; Pins: 5; Min Operating Temperature: -40°C; Max Operating Temperature: 125°C; Packaging: Tape and Reel; Output Voltage: 1.5V; Output Current: 150mA; Series: -; RoHS Compliant: Yes; ComponentLink1URL: http://www.mouser.com/ds/2/495/mic5225-278372.pdf?src-supplier=Mouser; ComponentLink1Description: http://www.mouser.com/ds/2/495/mic5225-278372.pdf?src-supplier=Mouser; ComponentLink2URL: http://components.arrow.com/part/dataview/45989778S416717N1374?src-supplier=Arrow+Electronics; ComponentLink2Description: http://components.arrow.com/part/dataview/45989778S416717N1374?src-supplier=Arrow+Electronics; ComponentLink3URL: http://www.microchip.com/mymicrochip/filehandler.aspx?ddocname=en579718&src-supplier=Digikey; ComponentLink3Description: http://www.microchip.com/mymicrochip/filehandler.aspx?ddocname=en579718&src-supplier=Digikey; ComponentLink4Description: Link Digikey; ComponentLink4URL: https://www.digikey.com/en/products/detail/microchip-technology/MIC5225-1-5YM5-TR/1834694
footprint SOT-23-5-MT
pins: 1 VIN, 2 GND, 3 EN, 4 NC/ADJ, 5 VOUT

## LDO; 2V5; 150mA; SMD; LD3985M25R
designator IC?, comment Linear Voltage Regulator IC Positive Fixed 1 Output 150mA SOT-23-5  (value not drawn)
LD3985 Series 150 mA 2.5 V Fixed Low Noise LDO BiCMOS Regulator-SOT-23-5; Manufacturer: STMicroelectronics; Manufacturer Part Number: LD3985M25R; Min Supply Voltage: 3V; Number of Channels: 1NUMBER; Designer: TVBac; Supplier: Avnet; Supplier Part Number: LD3985M25R; RoHS: Yes; Category: Voltage Regulators - Linear; Stock: 2855; Pricing: 910=0.36686, 920=0.36274, 1900=0.35724, 4600=0.35449, 9100=0.34762, 46000=0.3435, 91000=0.33526 (USD); ComponentLink1URL: https://datasheet.ciiva.com/16978/0900766b80dbdaf5-16978928.pdf?src-supplier=Allied+Electronics; ComponentLink1Description: https://datasheet.ciiva.com/16978/0900766b80dbdaf5-16978928.pdf?src-supplier=Allied+Electronics; ComponentLink2URL: https://datasheet.ciiva.com/41440/001185303-da-01-en-ic-reg-ldo-2-5v-ld3985m25r-sot-23-5-stm-41440343.pdf?src-supplier=Conrad; ComponentLink2Description: https://datasheet.ciiva.com/41440/001185303-da-01-en-ic-reg-ldo-2-5v-ld3985m25r-sot-23-5-stm-41440343.pdf?src-supplier=Conrad; ComponentLink3URL: https://datasheet.ciiva.com/16457/cd00003395-16457662.pdf?src-supplier=Future+Electronics; ComponentLink3Description: https://datasheet.ciiva.com/16457/cd00003395-16457662.pdf?src-supplier=Future+Electronics; ComponentLink4URL: https://datasheet.ciiva.com/2042/cd00003395-2042582.pdf?src-supplier=Digikey; ComponentLink4Description: https://datasheet.ciiva.com/2042/cd00003395-2042582.pdf?src-supplier=Digikey; ComponentLink5URL: https://datasheet.ciiva.com/2042/cd00003395-2042583.pdf?src-supplier=Digikey; ComponentLink5Description: https://datasheet.ciiva.com/2042/cd00003395-2042583.pdf?src-supplier=Digikey; ComponentLink6URL: https://datasheet.ciiva.com/2042/cd00003395-2042584.pdf?src-supplier=Digikey; ComponentLink6Description: https://datasheet.ciiva.com/2042/cd00003395-2042584.pdf?src-supplier=Digikey; ComponentLink7Description: Link Digikey; ComponentLink7URL: https://www.digikey.com/en/products/detail/stmicroelectronics/LD3985M25R/725180
footprint SOT-23-5-STM
pins: 1 VIN, 2 GND, 3 V-INH, 4 BYPASS, 5 VOUT

## LDO; 3V3; 1A; SMD; AZ1117EH-3.3TRG1
designator IC?, comment Linear Voltage Regulator IC Positive Fixed 1 Output 1A SOT-223-3  (value not drawn)
Linear Voltage Regulator IC 1 Output 1A SOT-223; MF: Diodes Inc.; MP: AZ1117EH-3.3TRG1; Designer: TVBac; Package: SOT-223 Diodes Inc.; Value: *; Price: None; SnapEDA_Link: https://www.snapeda.com/parts/AZ1117EH-3.3TRG1/Diodes%20Inc./view-part/482930/?ref=snap; Availability: Unavailable; ComponentLink1Description: Link Digikey; ComponentLink1URL: https://www.digikey.com/en/products/detail/diodes-incorporated/AZ1117EH-3-3TRG1/5001329
footprint SOT-223-3-DI
pins: 1 ADJ/GND, 2 OUT, 3 IN, 4 OUT

## LDO; 3V3; 150mA; LD3985M33R
designator IC?, comment Linear Voltage Regulator IC Positive Fixed 1 Output 150mA SOT-23-5  (value not drawn)
LD3985 Series 150 mA 3.3 V Fixed Low Noise LDO BiCMOS Regulator-SOT-23-5; Manufacturer: STMicroelectronics; Manufacturer Part Number: LD3985M33R; Min Input Voltage: 2.5V; Number of Outputs: 1; Max Supply Voltage: 6V; Output Voltage: 3.3V; Dropout Voltage: 400uV; Input Bias Current: 85uA; Quiescent Current: 150uA; Max Supply Current: 250uA; Power Supply Rejection Ratio (PSRR): 50dB; Number of Channels: 1NUMBER; Designer: TVBac; Supplier: Future Electronics; Supplier Part Number: 4710513; RoHS: Yes; Category: Voltage Regulators - Linear; Stock: 78000; Pricing: 3000=0.24, 6000=0.235, 9000=0.23, 15000=0.23, 30000=0.22 (USD); Mounting Technology: Surface Mount; Case/Package: SOT-23-5; Pins: 5; Weight: 0.000222oz; Min Operating Temperature: -40°C; Max Operating Temperature: 125°C; Packaging: Cut Tape; Package Quantity: 3000; Output Current: 150mA; Number of Regulators: 1; Min Output Voltage: 3.3V; Polarity: Positive; Output Type: Fixed; Series: -; Output Configuration: Positive; Min Supply Voltage: 2.5V; Length: 3mm; Width: 1.75mm; Height: 1.3mm; Lead Free: Lead Free; RoHS Compliant: Yes; ComponentLink1URL: https://datasheet.ciiva.com/41440/001185181-da-01-en-ic-reg-ldo-3-3v-ld3985m33r-sot-23-5-stm-41440289.pdf?src-supplier=Conrad; ComponentLink1Description: https://datasheet.ciiva.com/41440/001185181-da-01-en-ic-reg-ldo-3-3v-ld3985m33r-sot-23-5-stm-41440289.pdf?src-supplier=Conrad; ComponentLink2URL: https://datasheet.ciiva.com/2042/cd00003395-2042199.pdf?src-supplier=Digikey; ComponentLink2Description: https://datasheet.ciiva.com/2042/cd00003395-2042199.pdf?src-supplier=Digikey; ComponentLink3URL: https://datasheet.ciiva.com/2042/cd00003395-2042198.pdf?src-supplier=Digikey; ComponentLink3Description: https://datasheet.ciiva.com/2042/cd00003395-2042198.pdf?src-supplier=Digikey; ComponentLink4URL: https://datasheet.ciiva.com/2042/cd00003395-2042200.pdf?src-supplier=Digikey; ComponentLink4Description: https://datasheet.ciiva.com/2042/cd00003395-2042200.pdf?src-supplier=Digikey; ComponentLink5Description: Link Digikey; ComponentLink5URL: https://www.digikey.com/en/products/detail/stmicroelectronics/LD3985M33R/669343
footprint SOT-23-5-STM
pins: 1 VIN, 2 GND, 3 V-EN, 4 BYPASS, 5 VOUT

## LDO; 3V3; RT9193-33GB
designator IC?, comment Manufacturer Part Number: RT9193-33GB  (hidden comment: Linear Voltage Regulator IC Positive Fixed 1 Output 300mA SOT-23-5)
RT9193 Series 300 mA 3.3 V Ultra-Low Noise Ultra-Fast CMOS LDO Regulator-SC-70-5; Manufacturer: Richtek; Supplier: Mouser; Supplier Part Number: 835-RT9193-33GB; RoHS: Yes; Category: Voltage Regulators - Linear; Stock: 720; Pricing: 1=0.88, 10=0.533, 50=0.441, 100=0.337, 1000=0.228, 10000=0.159 (USD); ComponentLink1URL: https://datasheet.ciiva.com/2046/3d3futf-83fb3frfm5mtkzlte2lnbkzg3d3d3f3d-2046896.pdf?src-supplier=Digikey; ComponentLink1Description: https://datasheet.ciiva.com/2046/3d3futf-83fb3frfm5mtkzlte2lnbkzg3d3d3f3d-2046896.pdf?src-supplier=Digikey; ComponentLink2URL: https://datasheet.ciiva.com/28652/1782157-28652989.pdf?src-supplier=Element14; ComponentLink2Description: https://datasheet.ciiva.com/28652/1782157-28652989.pdf?src-supplier=Element14
footprint SOT-23-5-RUI
pins: 1 VIN, 2 GND, 3 V-EN, 4 BYPASS, 5 VOUT

## LDO; 5V; 1A; BA17805FP-E2
designator IC?, comment Linear Voltage Regulator IC Positive Fixed 1 Output 1A TO-252  (value not drawn)
Linear Voltage Regulator, Fixed, Positive Output, 7.5 V to 25 V, 5V, 1A, 3 Pins, TO-252 (DPAK); Manufacturer: Rohm; Manufacturer Part Number: BA17805FP-E2; Number of Channels: 1NUMBER; Watchdog Timer: 5511WatchdogTimer; Designer: TVBac; Supplier: Mouser; Supplier Part Number: 755-BA17805FP-E2; RoHS: Yes; Category: Voltage Regulators - Linear; Stock: 4846; Pricing: 1=0.82, 10=0.599, 50=0.599, 100=0.411, 1000=0.336, 10000=0.251 (USD); Lead Free: 5697LeadFree; ComponentLink1URL: https://datasheet.ciiva.com/23912/1747296-23912291.pdf?src-supplier=Newark; ComponentLink1Description: https://datasheet.ciiva.com/23912/1747296-23912291.pdf?src-supplier=Newark; ComponentLink2URL: https://datasheet.ciiva.com/26878/getdatasheetpartid-477305-26878653.pdf?src-supplier=Verical; ComponentLink2Description: https://datasheet.ciiva.com/26878/getdatasheetpartid-477305-26878653.pdf?src-supplier=Verical; ComponentLink3URL: https://datasheet.ciiva.com/22732/1747296-22732780.pdf?src-supplier=Element14; ComponentLink3Description: https://datasheet.ciiva.com/22732/1747296-22732780.pdf?src-supplier=Element14; ComponentLink4URL: https://datasheet.ciiva.com/6594/ba178-series-j-6594060.pdf?src-supplier=Digikey; ComponentLink4Description: https://datasheet.ciiva.com/6594/ba178-series-j-6594060.pdf?src-supplier=Digikey; ComponentLink5URL: https://datasheet.ciiva.com/6594/ba178-series-j-6594061.pdf?src-supplier=Digikey; ComponentLink5Description: https://datasheet.ciiva.com/6594/ba178-series-j-6594061.pdf?src-supplier=Digikey; ComponentLink6URL: https://datasheet.ciiva.com/6594/ba178-series-j-6594062.pdf?src-supplier=Digikey; ComponentLink6Description: https://datasheet.ciiva.com/6594/ba178-series-j-6594062.pdf?src-supplier=Digikey; ComponentLink7Description: Link Digikey; ComponentLink7URL: https://www.digikey.com/en/products/detail/rohm-semiconductor/BA17805FP-E2/658261
footprint TO252-3-RS
pins: 1 IN, 2 GND, 3 OUT

## LDO; 5VDC; LM340SX-5.0/NOPB
designator IC?, comment Linear Voltage Regulator IC Positive Fixed 1 Output 1.5A TO-263 (DDPAK-3)  (value not drawn)
1.5-A, 35-V, linear voltage regulator 3-DDPAK/TO-263 0 to 125; Manufacturer: Texas Instruments; Manufacturer Part Number: LM340SX-5.0/NOPB; Designer: TVBac; Supplier: Mouser; Supplier Part Number: 926-LM340SX-5.0/NOPB; RoHS: Yes; Category: Voltage Regulators - Linear; Stock: 5647; Pricing: 1=1.55, 10=1.24, 50=1.24, 100=1.12, 1000=0.761, 10000=0.656 (USD); ComponentLink1URL: https://datasheet.ciiva.com/49028/1888853-49028029.pdf?src-supplier=Element14; ComponentLink1Description: https://datasheet.ciiva.com/49028/1888853-49028029.pdf?src-supplier=Element14; ComponentLink2URL: https://datasheet.ciiva.com/46381/1882927-46381862.pdf?src-supplier=Element14; ComponentLink2Description: https://datasheet.ciiva.com/46381/1882927-46381862.pdf?src-supplier=Element14; ComponentLink3URL: https://datasheet.ciiva.com/46381/1888853-46381897.pdf?src-supplier=Element14; ComponentLink3Description: https://datasheet.ciiva.com/46381/1888853-46381897.pdf?src-supplier=Element14
footprint TO-263-4-TI
pins: 1 IN, 2 GND, 3 OUT, 4 GND

## LDO; LM7805CT
designator IC?, comment Linear Voltage Regulator IC Positive Fixed 1 Output 1.5A TO-220-3  (value not drawn)
1.5-A, 35-V, linear voltage regulator 3-TO-220 0 to 125; Manufacturer: TI National Semiconductor; Manufacturer Part Number: LM7805CT; Output Voltage: 5V; Output Current: 1A; Max Supply Voltage: 35V; Min Input Voltage: 7.5V; Number of Outputs: 1; Max Output current: 100mA; Dropout Voltage: 2V; Accuracy: 4%; Quiescent Current: 8mA; Output Voltage Accuracy: 2%; Power Supply Rejection Ratio (PSRR): 80dB; Designer: TVBac; Supplier: Mouser; Supplier Part Number: 926-LM7805CT; RoHS: No; Category: Voltage Regulators - Linear; Stock: 10497; Pricing: 1=2.45, 10=2.2, 50=2.2, 90=1.77, 100=1.77, 270=1.66, 540=1.45, 1000=1.45, 1035=1.2, 2520=1.12, 5040=1.08, 10000=1.08, 10035=1.03 (USD); Mounting Technology: Through Hole; Case/Package: TO-220; Pins: 3; Min Operating Temperature: 0°C; Max Operating Temperature: 70°C; Packaging: Rail/Tube; Package Quantity: 45; Polarity: Positive; Number of Regulators: 1; Current Rating: 1A; Output Type: Fixed; Series: LM7805C; Voltage: 5V; Length: 10.67mm; Width: 4.83mm; Height: 9.4mm; Thickness: 4.572mm; Reach SVHC Compliant: No; Lead Free: Lead Free; RoHS Compliant: No; ComponentLink1URL: https://datasheet.ciiva.com/41819/lm7805c-41819175.pdf?src-supplier=Digikey; ComponentLink1Description: https://datasheet.ciiva.com/41819/lm7805c-41819175.pdf?src-supplier=Digikey; ComponentLink2URL: https://datasheet.ciiva.com/19477/902071-19477751.pdf?src-supplier=Jameco; ComponentLink2Description: https://datasheet.ciiva.com/19477/902071-19477751.pdf?src-supplier=Jameco; ComponentLink3URL: https://datasheet.ciiva.com/18552/lm7805c-18552282.pdf?src-supplier=Digikey; ComponentLink3Description: https://datasheet.ciiva.com/18552/lm7805c-18552282.pdf?src-supplier=Digikey
footprint TO-220-3
pins: 1 IN, 2 GND, 3 OUT

## MAX485CSAT
designator IC?, comment 1/1 Transceiver Half RS422, RS485 8-SOIC  (value not drawn)
Contact for details; Manufacturer: Maxim; Manufacturer Part Number: MAX485CSAT; Designer: TVBac; Supplier: Mouser; Supplier Part Number: 700-MAX485CSAT; RoHS: Yes; Stock: 2293; Pricing: 1=6.05, 10=4.17, 25=3.74, 50=3.74, 100=3.22, 250=2.98, 500=2.72, 1000=2.49, 2500=2.4, 10000=2.4 (USD)
footprint SOIC-8
pins: 1 RO, 2 ~{RE}, 3 DE, 4 DI, 5 GND, 6 A, 7 B, 8 VCC

## MCU; EFM32GG12B410F1024GL120-AR
designator IC?, comment ARM® Cortex®-M4 Giant Gecko S1 Microcontroller IC 32-Bit Single-Core 72MHz 1MB (1M x 8) FLASH 120-BGA (7x7)  (value not drawn)
Manufacturer: Silicon Labs; Manufacturer Part Number: EFM32GG12B410F1024GL120-AR; Interface: I2C,SPI,USB,IrDA,MMC,SDIO,SD,UART,USART,EBI/EMI; Peripherals: Brown-out Detect/Reset,POR,PWM,WDT,DMA,LCD; Core Architecture: ARM; Number of I/Os: 93; Oscillator Type: Internal; Supplier: Digikey; Supplier Part Number: EFM32GG12B410F1024GL120-AR-ND; RoHS: Yes; Category: Embedded Processors and Controllers; Pricing: 1000=8.1807 (USD); Mounting Technology: Surface Mount; Case/Package: VFBGA; Min Operating Temperature: -40°C; Max Operating Temperature: 85°C; Memory Format: FLASH; Series: Giant Gecko S1; Packaging: Tape and Reel; Memory Size: 1MB; RoHS Compliant: Yes
footprint BGA-120-SILICONLAB (BGA, 120 Leads, Body 7.0x7.0mmx1,30mm, Pitch 0.50mm (191111))
part A pins: B1 PA15, C1 PA1, C2 PA0, D1 PA3, D2 PA2, E1 PA6, E2 PA5, E3 PA4, L3 PA7, M3 PA8, M4 PA10, M5 PA13, M6 PA14, N3 PA9, N4 PA11, N5 PA12
part B pins: D3 PB15, F1 PB0, F2 PB1, F3 PB2, G1 PB3, G2 PB4, H1 PB5, H2 PB6, L8 PB9, L9 PB10, M1 PB7, N1 PB8, N6 PB11, N7 PB12, N9 PB13, N10 PB14
part C pins: C12 PC14, C13 PC15, D12 PC12, D13 PC13, E12 PC10, E13 PC11, F12 PC8, F13 PC9, H13 PC7, J12 PC6, K1 PC0, K2 PC1, L1 PC2, L2 PC3, M2 PC4, N2 PC5
part D pins: A5 PD11, A6 PD9, B5 PD12, B6 PD10, C4 PD13, J1 PD14, J2 PD15, K13 PD8, L10 PD0, L11 PD1, L12 PD4, L13 PD7, M12 PD3, M13 PD6, N12 PD2, N13 PD5
part E pins: A1 PE15, A2 PE14, A3 PE12, A4 PE9, B2 PE13, B3 PE11, B4 PE8, C3 PE10, C11 PE4, D11 PE5, E11 PE6, F11 PE7, G11 PE0, G12 PE1, G13 PE3, H12 PE2
part F pins: A7 PF7, A8 PF5, A9 PF4, A10 PF2, A13 PF11, B7 PF8, B8 PF6, B9 PF3, B10 PF1, B11 PF12, B13 PF10, C7 PF9, C10 PF0
part G pins: A11 VREGI, A12 VREGO, B12 VBUS, C5 VSS, C6 IOVDD1, C8 VSS, C9 IOVDD0, G3 IOVDD0, H3 VSS, H11 DVDD, J3 VSS, J11 IOVDD0, J13 DECOUPLE, K3 IOVDD0, K11 VSS, K12 VSS, L4 IOVDD0, L5 VSS, L6 VSS, L7 IOVDD0, M7 RESETn, M8 VSS, M9 AVDD, M10 AVDD, M11 VSS, N8 VSS, N11 AVDD

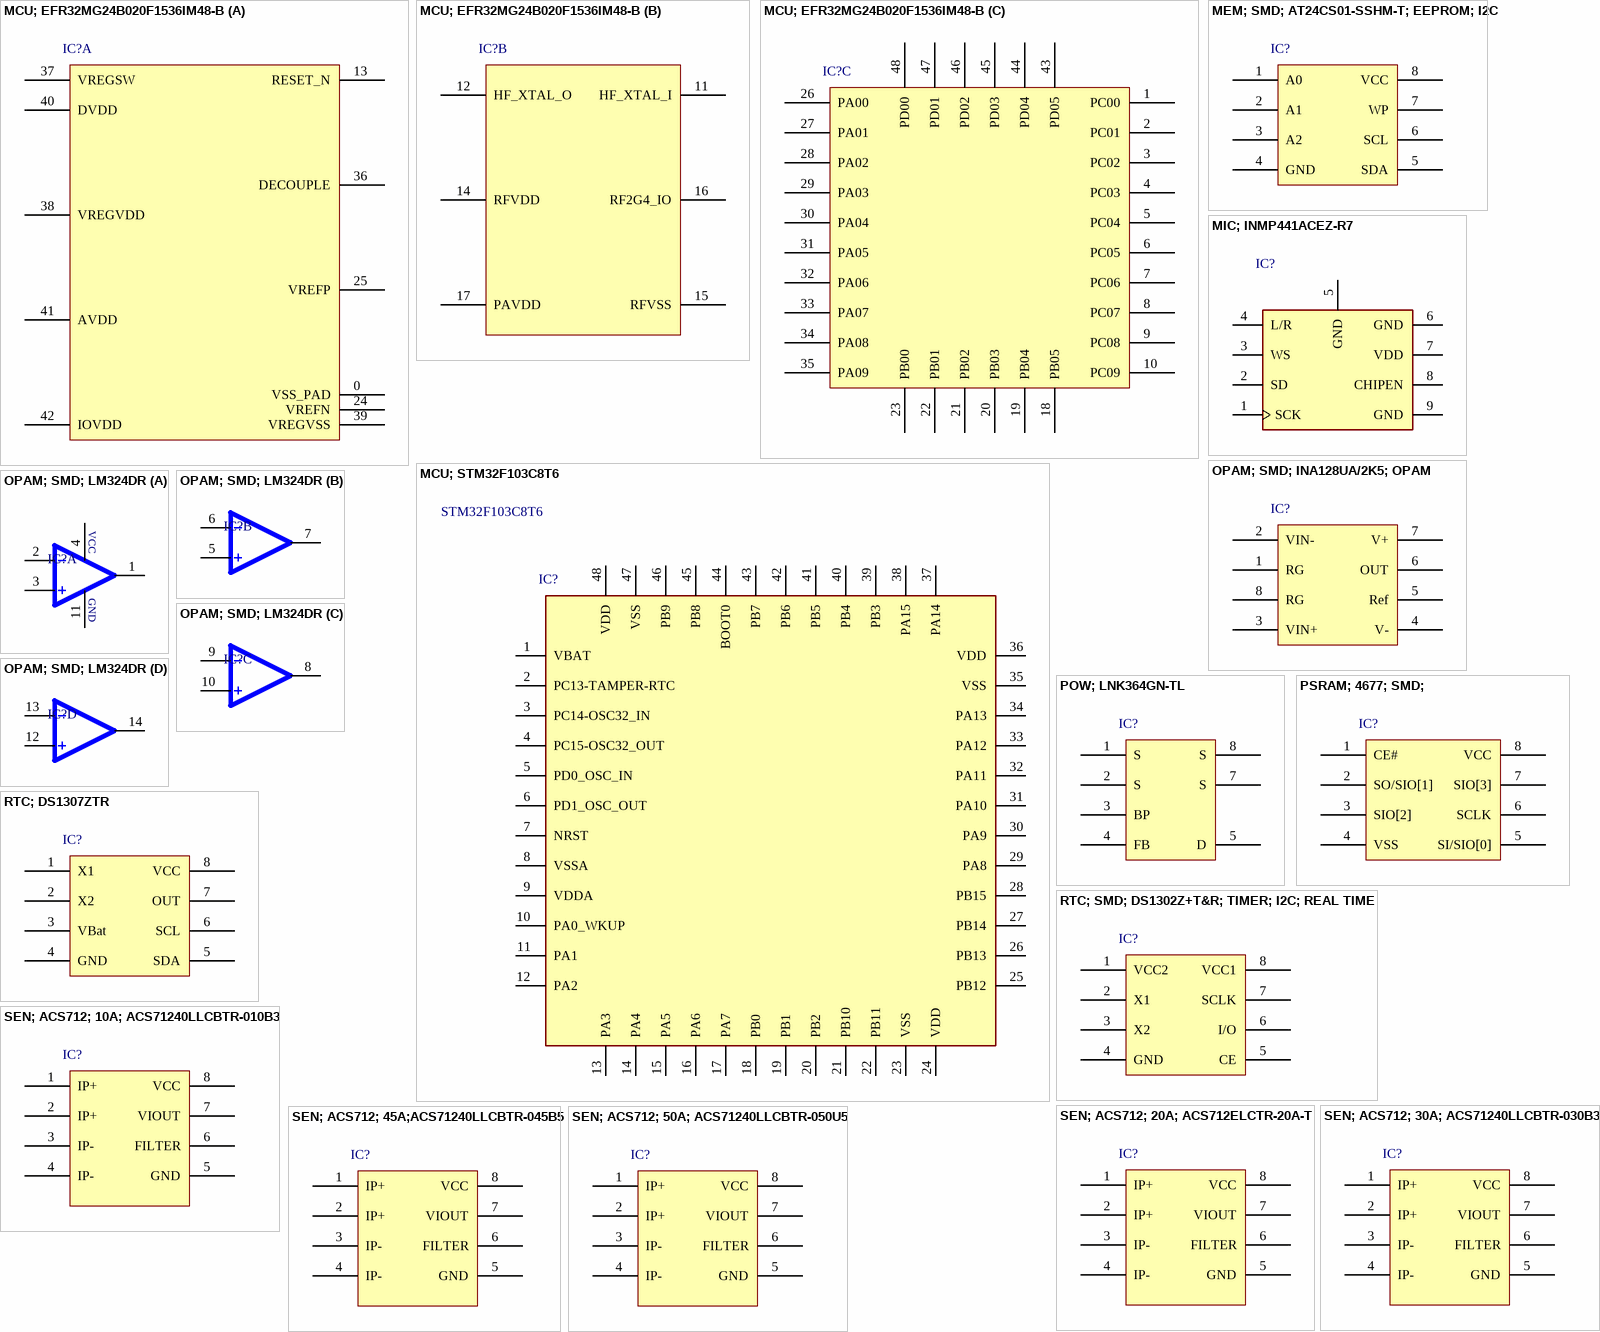
[diagram p2: symbols MCU; EFR32MG24B020F1536IM48-B to SEN; ACS712; 50A; ACS71240LLCBTR-050U5]

## MCU; EFR32MG24B020F1536IM48-B
designator IC?, comment IC RF TxRx + MCU Bluetooth Bluetooth v5.3 2.4GHz 48-VFQFN Exposed Pad  (value not drawn)
MG24, 2.4 GHz, 1536kB Flash, 256kB RAM, +20 dBm, Secure Vault High, +125C, QFN48; Manufacturer: Silicon Labs; Manufacturer Part Number: EFR32MG24B020F1536IM48-B; Designer: TVBac; Supplier: Digikey; Supplier Part Number: 336-EFR32MG24B020F1536IM48-B-ND; RoHS: No; Stock: 4178; Pricing: 1=11.45, 10=8.866, 25=8.1024, 80=7.30675, 230=6.72591, 440=6.42536, 945=6.11836 (USD); ComponentLink1Description: Link Digikey; ComponentLink1URL: https://www.digikey.com/en/products/detail/silicon-labs/EFR32MG24B020F1536IM48-B/16183984?s=N4IgTCBcDaIMxwGwFoCiAxASnMBZA4mACwBCADGGegIwCsSAkrkQBzInIByAIiALoBfIA
footprint QFN-48-SiliconLab (QFN48, Pitch 0.4, 6.0x6.0 H0.9 (210603))
part A pins: 0 VSS_PAD, 13 RESET_N, 24 VREFN, 25 VREFP, 36 DECOUPLE, 37 VREGSW, 38 VREGVDD, 39 VREGVSS, 40 DVDD, 41 AVDD, 42 IOVDD
part B pins: 11 HF_XTAL_I, 12 HF_XTAL_O, 14 RFVDD, 15 RFVSS, 16 RF2G4_IO, 17 PAVDD
part C pins: 1 PC00, 2 PC01, 3 PC02, 4 PC03, 5 PC04, 6 PC05, 7 PC06, 8 PC07, 9 PC08, 10 PC09, 18 PB05, 19 PB04, 20 PB03, 21 PB02, 22 PB01, 23 PB00, 26 PA00, 27 PA01, 28 PA02, 29 PA03, 30 PA04, 31 PA05, 32 PA06, 33 PA07, 34 PA08, 35 PA09, 43 PD05, 44 PD04, 45 PD03, 46 PD02, 47 PD01, 48 PD00

## MCU; STM32F103C8T6
designator IC?, comment Manufacturer Part Number: STM32F103C8T6  (hidden comment: ARM® Cortex®-M3 STM32F1 Microcontroller IC 32-Bit Single-Core 72MHz 64KB (64K x 8) FLASH)
ARM Cortex-M3 STM32 F1 Microcontroller 32-Bit 72MHz 64kB FLASH LQFP48 STM32F103C8T6; Manufacturer: STMicroelectronics; RAM Size: 20KB; Interface: I2C,SPI,USB,CAN,USART; Number of I/Os: 37; Number of Timers/Counters: 3; Max Supply Voltage: 3.6V; Number of ADC Channels: 10; Min Supply Voltage: 2V; Data Bus Width: 32b; Nominal Supply Current: 1.7uA; Number of A/D Converters: 2NUMBER; Number of Channels: 10NUMBER; Supplier: Arrow Electronics; Supplier Part Number: STM32F103C8T6; RoHS: Yes; Category: Microcontrollers; Stock: 1118127; Pricing: 1=2.3007, 10=2.1312, 25=2.0654, 50=2.0304, 100=2.0067, 250=1.897 (USD); Case/Package: LQFP; Pins: 48; Weight: 0.006349oz; Min Operating Temperature: -40°C; Max Operating Temperature: 85°C; Packaging: Tray; Package Quantity: 1500; Memory Format: FLASH; Clock Frequency: 72MHz; Memory Size: 64KB; Core Architecture: ARM; Series: STM32F103C8; Length: 7mm; Width: 7mm; Height: 1.4mm; Lead Free: 5697LeadFree; RoHS Compliant: Yes; ComponentLink1URL: https://datasheet.ciiva.com/15122/getdatasheetpartid-69880-15122076.pdf?src-supplier=Verical; ComponentLink1Description: https://datasheet.ciiva.com/15122/getdatasheetpartid-69880-15122076.pdf?src-supplier=Verical; ComponentLink2URL: https://datasheet.ciiva.com/14100/pustm-arm-microcont-stm32f103-en-14100508.pdf?src-supplier=Distrelec; ComponentLink2Description: https://datasheet.ciiva.com/14100/pustm-arm-microcont-stm32f103-en-14100508.pdf?src-supplier=Distrelec; ComponentLink3URL: https://datasheet.ciiva.com/16210/cd00161566-16210248.pdf?src-supplier=Future+Electronics; ComponentLink3Description: https://datasheet.ciiva.com/16210/cd00161566-16210248.pdf?src-supplier=Future+Electronics; ComponentLink4URL: https://datasheet.ciiva.com/48687/001075658-da-01-en-mcu-64kb-mem-stm32f103c8t6-lqfp-48-stm-48687589.pdf?src-supplier=Conrad; ComponentLink4Description: https://datasheet.ciiva.com/48687/001075658-da-01-en-mcu-64kb-mem-stm32f103c8t6-lqfp-48-stm-48687589.pdf?src-supplier=Conrad
footprint LQFP-48-STM32F103C8T6-STM
pins: 1 VBAT, 2 PC13-TAMPER-RTC, 3 PC14-OSC32_IN, 4 PC15-OSC32_OUT, 5 PD0_OSC_IN, 6 PD1_OSC_OUT, 7 NRST, 8 VSSA, 9 VDDA, 10 PA0_WKUP, 11 PA1, 12 PA2, 13 PA3, 14 PA4, 15 PA5, 16 PA6, 17 PA7, 18 PB0, 19 PB1, 20 PB2, 21 PB10, 22 PB11, 23 VSS, 24 VDD, 25 PB12, 26 PB13, 27 PB14, 28 PB15, 29 PA8, 30 PA9, 31 PA10, 32 PA11, 33 PA12, 34 PA13, 35 VSS, 36 VDD, 37 PA14, 38 PA15, 39 PB3, 40 PB4, 41 PB5, 42 PB6, 43 PB7, 44 BOOT0, 45 PB8, 46 PB9, 47 VSS, 48 VDD